# EAGLE library part SI4464 (library ruark2)
IC RF TxRx + MCU General ISM < 1GHz 119MHz ~ 1.05GHz 20-VFQFN Exposed Pad
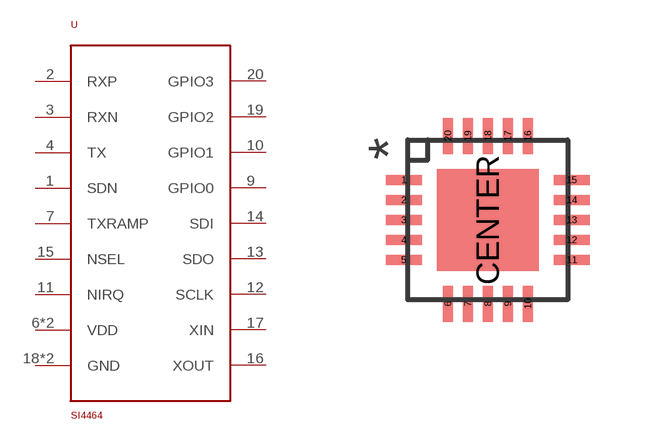
[diagram p22: symbol with the pads of SI4464; footprint SI4464]

Designator prefix U

## SI4464 (PARTNO: 336-2472-5-ND)  [SI4464]
1  SDN
2  RXP
3  RXN
4  TX
6  VDD
7  TXRAMP
8  VDD
9  GPIO0
10  GPIO1
11  NIRQ
12  SCLK
13  SDO
14  SDI
15  NSEL
16  XOUT
17  XIN
18  GND
19  GPIO2
20  GPIO3
CENTER  GND

## Footprint SI4464 (pad centres in mm)
smd 0.9 x 0.25: 1 -2.1,1; 2 -2.1,0.5; 3 -2.1,0; 4 -2.1,-0.5; 5 -2.1,-1; 11 2.1,-1; 12 2.1,-0.5; 13 2.1,0; 14 2.1,0.5; 15 2.1,1
smd 0.25 x 0.9: 6 -1,-2.1; 7 -0.5,-2.1; 8 0,-2.1; 9 0.5,-2.1; 10 1,-2.1; 16 1,2.1; 17 0.5,2.1; 18 0,2.1; 19 -0.5,2.1; 20 -1,2.1
smd 2.55 x 2.55: CENTER 0,0